# Altium schematic symbol library Microchip Touch Sensors - Source.SchLib: 21 symbols
Pins are listed as number, name and electrical type; pins without a type are passive.

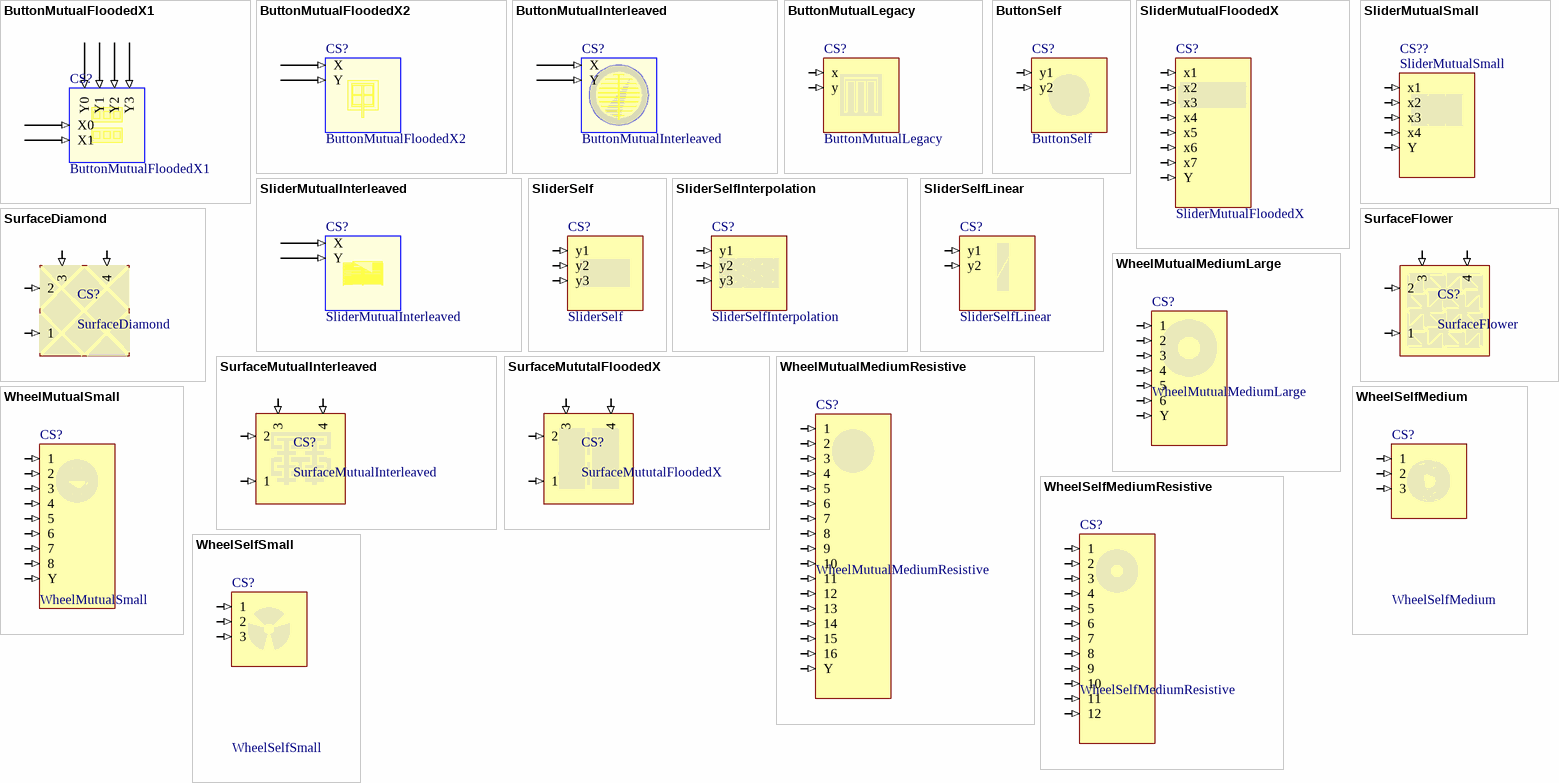
[diagram p0: symbols ButtonMutualFloodedX1 to WheelSelfSmall]

## ButtonMutualFloodedX1
designator CS?  (no BOM)
Solid X on buttom layer and array of Y on top layer; ConfiguratorName: MICROCHIP2_TOUCH; ConfigurationParameters: {}__sensorid[4]{}
pins: 4 Y1 (in), 5 X0 (in), 6 Y0 (in), 7 X1 (in), 8 Y2 (in), 9 Y3 (in)

## ButtonMutualFloodedX2
designator CS?  (no BOM)
Solid X on bottom layer and Y on top layer; ConfiguratorName: MICROCHIP2_TOUCH; ConfigurationParameters: {}__sensorid[5]{}
pins: 10 X (in), 11 Y (in)

## ButtonMutualInterleaved
designator CS?  (no BOM)
Interleaved X and Y line on same layer; ConfiguratorName: MICROCHIP2_TOUCH; ConfigurationParameters: {}__sensorid[3]{}
pins: 12 X (in), 13 Y (in)

## ButtonMutualLegacy
designator CS?  (no BOM)
Interleaved X and Y line on same layer - with limited configuration; ConfiguratorName: MICROCHIP2_TOUCH; ConfigurationParameters: {}__sensorid[2]{}
pins: x (in), y (in)

## ButtonSelf
designator CS?  (no BOM)
Self button with\without driven shield; ConfiguratorName: MICROCHIP2_TOUCH; ConfigurationParameters: {}__sensorid[1]{}
pins: 1 y1 (in), 2 y2 (in)

## SliderMutualFloodedX
designator CS?  (no BOM)
Interpolated X on bottom layer and Y on top layer; ConfiguratorName: MICROCHIP2_TOUCH; ConfigurationParameters: {}__sensorid[9]{}
pins: 1 x1 (in), 2 x2 (in), 3 x3 (in), 4 x4 (in), 5 x5 (in), 6 x6 (in), 7 x7 (in), Y (in)

## SliderMutualInterleaved
designator CS?  (no BOM)
Interleaved X and Y line on same layer; ConfiguratorName: MICROCHIP2_TOUCH; ConfigurationParameters: {}__sensorid[10]{}
pins: 14 X (in), 15 Y (in)

## SliderMutualSmall
designator CS??  (no BOM)
Interleaved X and Y line on same layer - with limited configuration; ConfiguratorName: MICROCHIP2_TOUCH; ConfigurationParameters: {}__sensorid[8]{}
pins: 1 x1 (in), 2 x2 (in), 3 x3 (in), 4 x4 (in), Y (in)

## SliderSelf
designator CS?  (no BOM)
Slider without interpolation; ConfiguratorName: MICROCHIP2_TOUCH; ConfigurationParameters: {}__sensorid[6]{}
pins: 1 y1 (in), 2 y2 (in), 3 y3 (in)

## SliderSelfInterpolation
designator CS?  (no BOM)
Slider with interpolation; ConfiguratorName: MICROCHIP2_TOUCH; ConfigurationParameters: {}__sensorid[7]{}
pins: 1 y1 (in), 2 y2 (in), 3 y3 (in)

## SliderSelfLinear
designator CS?  (no BOM)
Slider with interpolation (2-Channel); ConfiguratorName: MICROCHIP2_TOUCH; ConfigurationParameters: {}__sensorid[17]{}
pins: 1 y1 (in), 2 y2 (in)

## SurfaceDiamond
designator CS?  (no BOM)
Diamond pattern surface with both horizontal and vertical electrodes on same layer; ConfigurationParameters: {}__sensorid[18]{}; ConfiguratorName: MICROCHIP2_TOUCH
pins: 1 (in), 2 (in), 3 (in), 4 (in)

## SurfaceFlower
designator CS?  (no BOM)
Flower pattern surface with both horizontal and vertical electrodes on same layer; ConfigurationParameters: {}__sensorid[21]{}; ConfiguratorName: MICROCHIP2_TOUCH
pins: 1 (in), 2 (in), 3 (in), 4 (in)

## SurfaceMutualInterleaved
designator CS?  (no BOM)
Interleaved pattern surface with both horizontal and vertical electrodes on same layer; ConfigurationParameters: {}__sensorid[19]{}; ConfiguratorName: MICROCHIP2_TOUCH
pins: 1 (in), 2 (in), 3 (in), 4 (in)

## SurfaceMututalFloodedX
designator CS?  (no BOM)
FloodedX pattern surface with both horizontal and vertical electrodes on different layer; ConfigurationParameters: {}__sensorid[20]{}; ConfiguratorName: MICROCHIP2_TOUCH
pins: 1 (in), 2 (in), 3 (in), 4 (in)

## WheelMutualMediumLarge
designator CS?  (no BOM)
Medium and Large Matrix Wheel; ConfiguratorName: MICROCHIP2_TOUCH; ConfigurationParameters: {}__sensorid[16]{}
pins: 1 (in), 2 (in), 3 (in), 4 (in), 5 (in), 6 (in), Y (in)

## WheelMutualMediumResistive
designator CS?  (no BOM)
Medium Resitively Interpolated Matrix Wheel; ConfiguratorName: MICROCHIP2_TOUCH; ConfigurationParameters: {}__sensorid[15]{}
pins: 1 (in), 2 (in), 3 (in), 4 (in), 5 (in), 6 (in), 7 (in), 8 (in), 9 (in), 10 (in), 11 (in), 12 (in), 13 (in), 14 (in), 15 (in), 16 (in), Y (in)

## WheelMutualSmall
designator CS?  (no BOM)
Small Matrix Wheel; ConfiguratorName: MICROCHIP2_TOUCH; ConfigurationParameters: {}__sensorid[14]{}
pins: 1 (in), 2 (in), 3 (in), 4 (in), 5 (in), 6 (in), 7 (in), 8 (in), Y (in)

## WheelSelfMedium
designator CS?  (no BOM)
Medium Touch Wheel; ConfiguratorName: MICROCHIP2_TOUCH; ConfigurationParameters: {}__sensorid[12]{}
pins: 1 (in), 2 (in), 3 (in)

## WheelSelfMediumResistive
designator CS?  (no BOM)
Medium Resistively Interpolated Touch Wheel; ConfiguratorName: MICROCHIP2_TOUCH; ConfigurationParameters: {}__sensorid[13]{}
pins: 1 (in), 2 (in), 3 (in), 4 (in), 5 (in), 6 (in), 7 (in), 8 (in), 9 (in), 10 (in), 11 (in), 12 (in)

## WheelSelfSmall
designator CS?  (no BOM)
Small Touch Wheel; ConfiguratorName: MICROCHIP2_TOUCH; ConfigurationParameters: {}__sensorid[11]{}
pins: 1 (in), 2 (in), 3 (in)